# EAGLE library part 2-1415899-3 (library Relays)
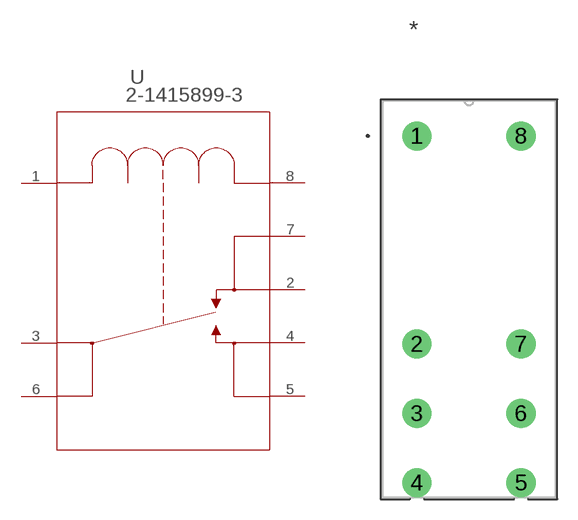
[diagram p38: symbol with the pads of RELAY_7-1415538-8; footprint RELAY_7-1415538-8]

Designator prefix U

## 2-1415899-3 (BUILT_BY: EMA_UL_Team; CATEGORY: Power Relays; COPYRIGHT: Copyright (C) 2016 Accelerated Designs. All rights reserved; DESCRIPTION: RZ03-1C4-D024; MANUFACTURER_PART_NUMBER: 2-1415899-3; PART_STATUS: active; SERIES: SCHRACK Power PCB Relay RZ; VENDOR: TE Connectivity)  [RELAY_7-1415538-8]
1  1  pas
2  8  pas
3  2  pas
4  4  pas
5  5  pas
6  3  pas
7  7  pas
8  6  pas

## Footprint RELAY_7-1415538-8 (pad centres in mm)
drill 1.422 pad 1.93: 1 -7.62,23.927; 2 -7.62,8.687; 3 -7.62,3.607; 4 -7.62,-1.473; 5 0,-1.473; 6 0,3.607; 7 0,8.687; 8 0,23.927